# EAGLE library part MIC4680 (library IC)
http://www.micrel.com/_PDF/mic4680.pdf
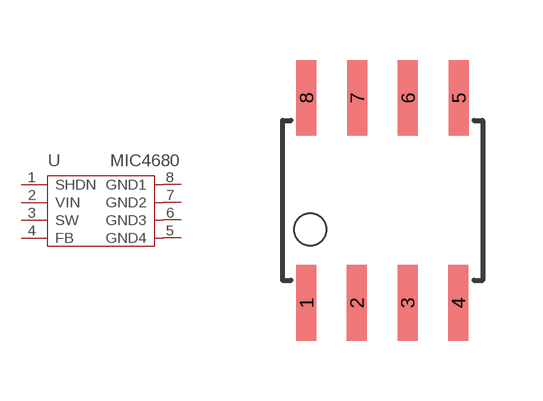
[diagram p161: symbol with the pads of SOIC8; footprint SOIC8]

Designator prefix U

## MIC4680  [SOIC8]
1  SHDN  in
2  VIN  sup
3  SW  out
4  FB  in
5  GND4  sup
6  GND3  sup
7  GND2  sup
8  GND1  sup

## Footprint SOIC8 (pad centres in mm)
Wide Plastic Gull Wing Small Outline Package
smd 0.5 x 1.9: 1 -1.905,-2.565; 2 -0.645,-2.565; 3 0.625,-2.565; 4 1.895,-2.565; 5 1.905,2.565; 6 0.635,2.565; 7 -0.635,2.565; 8 -1.905,2.565